# Altium footprint library PCBlib.PcbLib: 54 footprints (part 3 of 4)
Each footprint in its own frame and in the unit in brackets; x right, y up, seen from the top. Pads: shape width x height; smd on the part's side, far side on the other; paste and mask are expansions set on the pad; w line width, h text height; cw(c..) or ccw(c..) is an arc to the next point about the centre after c.
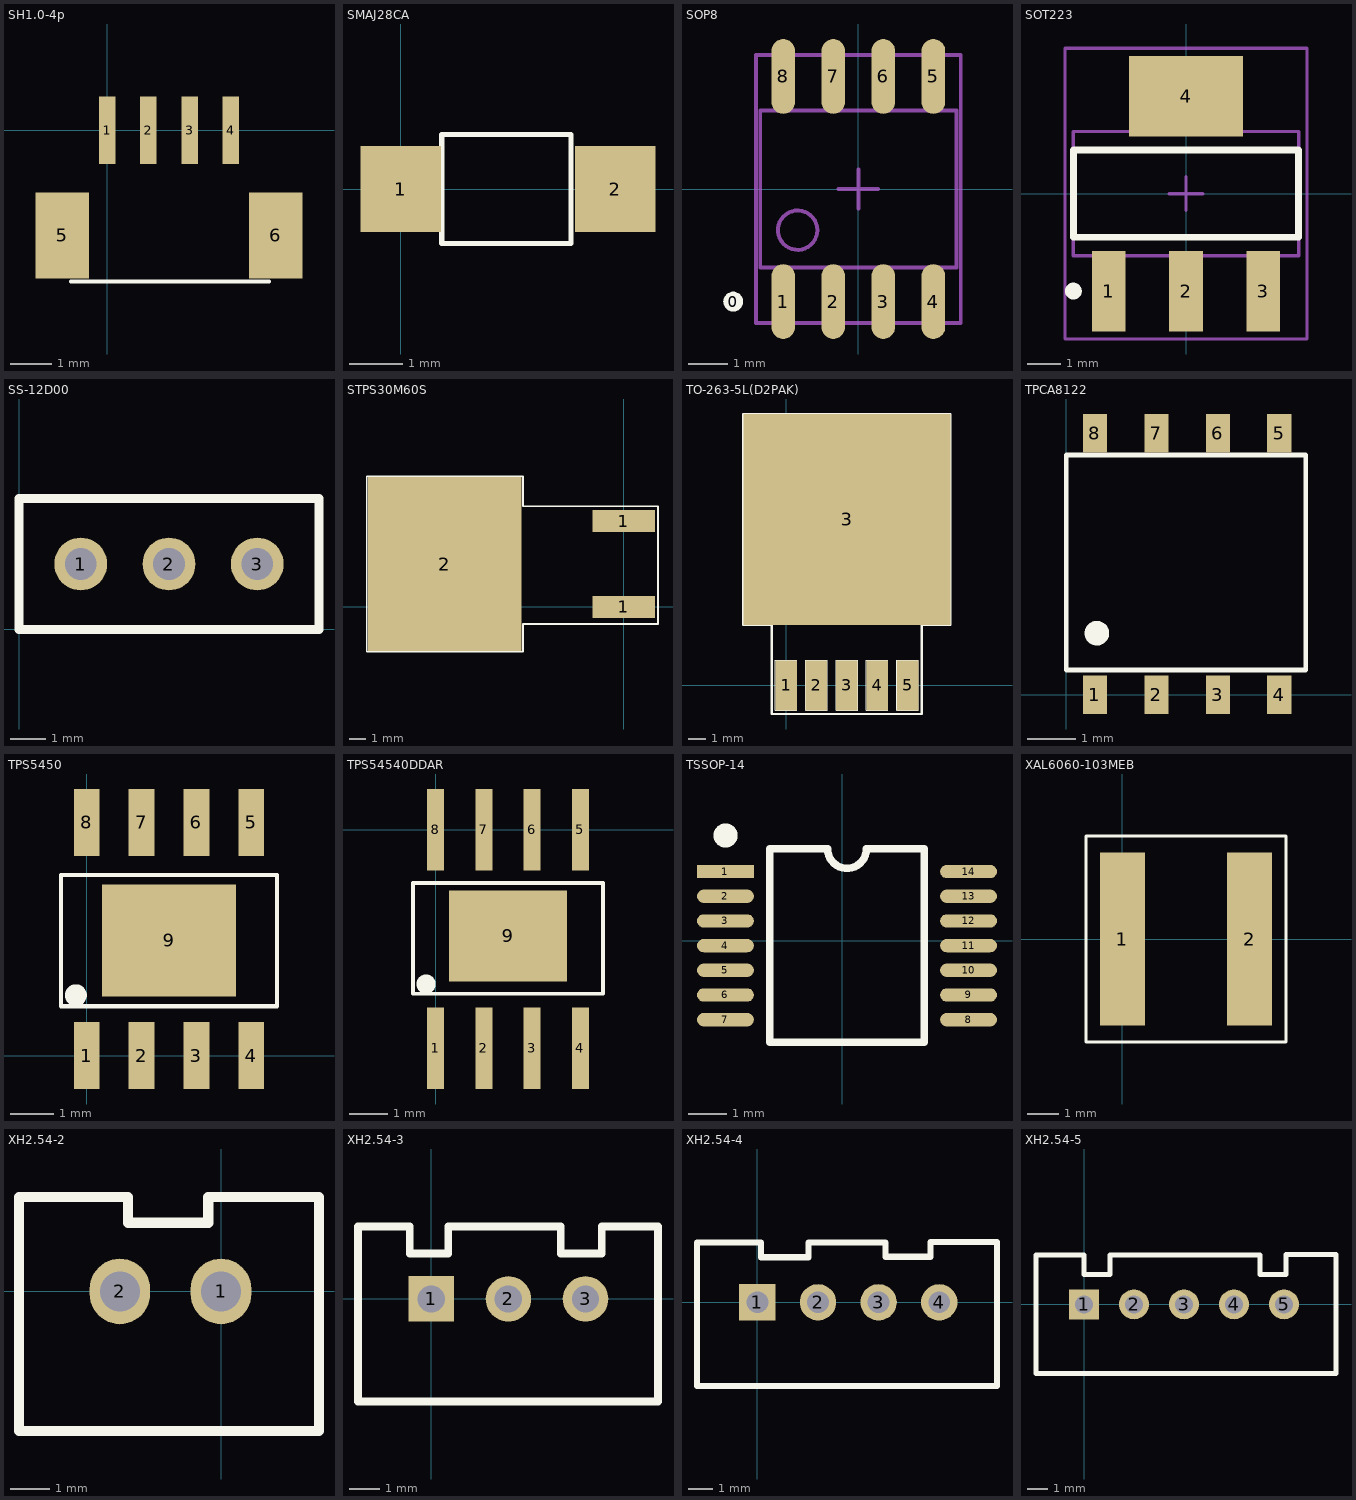
[diagram p2: the footprints below, top view; thin cyan lines are the x and y axes]

## SH1.0-4p [mm]
pads (6):
  rect 0.4x1.65 smd: 1(0,0) 2(1,0) 3(2,0) 4(3,0)
  rect 1.3x2.1 smd: 5(-1.1,-2.56) 6(4.1,-2.56)
Top Overlay:
  lines w0.1: -0.889,-3.683 3.937,-3.683

## SMAJ28CA [mm]
pads (2):
  rect 1.5x1.6 smd: 1(0,0) 2(4,0)
Top Overlay:
  lines w0.1: 0.762,-1.016 3.175,-1.016 3.175,1.016 0.762,1.016 0.762,-1.016

## SOP8 [mm]
height 1.75
pads (9):
  round 0.508 on Top Overlay: 0(-3.175,-2.858)
  oval 0.6x1.9 smd: 1(-1.905,-2.858) 2(-0.635,-2.858) 3(0.635,-2.858) 4(1.905,-2.858) 5(1.905,2.858) 6(0.635,2.858) 7(-0.635,2.858) 8(-1.905,2.858)
Mechanical 13:
  circle w0.1: c-1.54,-1.045 r0.5
  lines w0.1: -2.49,-1.995 -2.49,1.995 2.49,1.995 2.49,-1.995 -2.49,-1.995
Mechanical 15:
  lines w0.1: -0.5,0 0.5,0 ; 0,-0.5 0,0.5 ; -2.6,-3.4 -2.6,3.4 2.6,3.4 2.6,-3.4 -2.6,-3.4
3D body: height 1.75, standoff 0.1, extent -2.49,-1.995 2.49,1.995

## SOT223 [mm]
height 1.75
pads (4):
  rect 1x2.4 smd: 1(-2.3,-2.9) 2(0,-2.9) 3(2.3,-2.9)
  rect 3.4x2.4 smd: 4(0,2.9)
Top Overlay:
  circle w0.25: c-3.35,-2.9 r0.125
  lines w0.2: -3.35,-1.3 -3.35,1.3 3.35,1.3 3.35,-1.3 -3.35,-1.3
Mechanical 13:
  lines w0.1: -3.35,-1.85 -3.35,1.85 3.35,1.85 3.35,-1.85 -3.35,-1.85
Mechanical 15:
  lines w0.1: -0.5,0 0.5,0 ; 0,-0.5 0,0.5 ; -3.6,-4.325 -3.6,4.325 3.6,4.325 3.6,-4.325 -3.6,-4.325
3D body: height 1.8, standoff 0.02, extent -3.35,-1.85 3.35,1.85

## SS-12D00 [mm]
pads (3):
  round 1.5 hole 0.9: 1(1.75,1.85) 2(4.25,1.85) 3(6.75,1.85)
Top Overlay:
  lines w0.254: 0,0 8.5,0 8.5,3.7 0,3.7 0,0

## STPS30M60S [mm]
pads (3):
  rect 3.7x1.3 smd: 1(0,0) 1(0,5.08)
  rect 9.1x10.3 smd: 2(-10.6,2.54)
Top Overlay:
  lines w0.1: -15.24,-2.667 -15.24,7.747 -5.969,7.747 -5.969,5.969 2.032,5.969 2.032,-1.016 -5.969,-1.016 -5.969,-2.667 -15.24,-2.667

## TO-263-5L(D2PAK) [mm]
pads (6):
  rect 1.203x2.803 smd: 1(0,0) 2(1.7,0) 3(3.4,0) 4(5.1,0) 5(6.8,0)
  rect 11.6x11.8 smd: 3(3.412,9.297)
Top Overlay:
  lines w0.025: -0.6,-1.398 -0.6,1.406 ; -0.6,-1.398 0.604,-1.398 ; -0.6,-1.398 -0.6,1.406 ; -0.6,-1.398 0.604,-1.398 ; -0.6,1.406 0.604,1.406 ; -0.6,1.406 0.604,1.406 ; 0.604,-1.398 0.604,1.406 ; 0.604,-1.398 0.604,1.406 ; 1.1,-1.398 1.1,1.406 ; 1.1,-1.398 2.304,-1.398 ; 1.1,-1.398 1.1,1.406 ; 1.1,-1.398 2.304,-1.398 ; 1.1,1.406 2.304,1.406 ; 1.1,1.406 2.304,1.406 ; 2.304,-1.398 2.304,1.406 ; 2.304,-1.398 2.304,1.406 ; 2.8,-1.398 2.8,1.406 ; 2.8,-1.398 4.004,-1.398 ; 2.8,-1.398 2.8,1.406 ; 2.8,-1.398 4.004,-1.398 ; 2.8,1.406 4.004,1.406 ; 2.8,1.406 4.004,1.406 ; 4.004,-1.398 4.004,1.406 ; 4.004,-1.398 4.004,1.406 ; 4.5,-1.398 4.5,1.406 ; 4.5,-1.398 5.704,-1.398 ; 4.5,-1.398 4.5,1.406 ; 4.5,-1.398 5.704,-1.398 ; 4.5,1.406 5.704,1.406 ; 4.5,1.406 5.704,1.406 ; 5.704,-1.398 5.704,1.406 ; 5.704,-1.398 5.704,1.406 ; 6.2,-1.398 6.2,1.406 ; 6.2,-1.398 7.404,-1.398 ; 6.2,-1.398 6.2,1.406 ; 6.2,-1.398 7.404,-1.398 ; 6.2,1.406 7.404,1.406 ; 6.2,1.406 7.404,1.406 ; 7.404,-1.398 7.404,1.406 ; 7.404,-1.398 7.404,1.406
  lines w0.127: -0.798,15.204 -2.398,15.204 ; -2.398,15.204 -2.398,3.404 -0.798,3.404 -0.798,-1.596 7.602,-1.596 7.602,3.404 9.202,3.404 9.202,15.204 -2.398,15.204
3D body "User Library-D2PAK TO-263-5.STEP": height 4.87, standoff 0, extent -1.651,-0.842 8.509,13.388

## TPCA8122 [mm]
pads (8):
  rect 0.5x0.8 smd: 1(0.595,0) 2(1.865,0) 3(3.135,0) 4(4.405,0) 5(4.405,5.4) 6(3.135,5.4) 7(1.865,5.4) 8(0.595,5.4)
Top Overlay:
  circle w0.254: c0.635,1.27 r0.127
  lines w0.1: 0,0.508 4.953,0.508 4.953,4.953 0,4.953 0,0.508

## TPS5450 [mm]
pads (9):
  rect 0.6x1.55 smd: 1(0,0) 2(1.27,0) 3(2.54,0) 4(3.81,0) 5(3.81,5.4) 6(2.54,5.4) 7(1.27,5.4) 8(0,5.4)
  rect 3.1x2.6 smd: 9(1.905,2.667)
Top Overlay:
  circle w0.254: c-0.254,1.397 r0.127
  lines w0.1: -0.595,1.143 -0.595,4.181 1.905,4.181 4.405,4.181 4.405,1.143 1.905,1.143 -0.595,1.143

## TPS54540DDAR [mm]
pads (9):
  rect 0.45x2.15 smd: 1(0,-5.75) 2(1.27,-5.75) 3(2.54,-5.75) 4(3.81,-5.75) 5(3.81,0) 6(2.54,0) 7(1.27,0) 8(0,0)
  rect 3.1x2.4 smd: 9(1.905,-2.794)
Top Overlay:
  circle w0.254: c-0.254,-4.064 r0.127
  lines w0.1: -0.595,-4.318 -0.595,-1.397 1.905,-1.397 4.405,-1.397 4.405,-4.318 1.905,-4.318 -0.595,-4.318

## TSSOP-14 [mm]
pads (14):
  rect 1.5x0.35 smd: 1(-3.073,1.823)
  oval 1.5x0.35 smd: 2(-3.073,1.173) 3(-3.073,0.523) 4(-3.073,-0.127) 5(-3.073,-0.777) 6(-3.073,-1.427) 7(-3.073,-2.077) 8(3.327,-2.077) 9(3.327,-1.427) 10(3.327,-0.777) 11(3.327,-0.127) 12(3.327,0.523) 13(3.327,1.173) 14(3.327,1.823)
Top Overlay:
  circle w0.381: c-3.073,2.773 r0.127
  lines w0.2: -1.905,-2.677 2.159,-2.677 2.159,2.423 0.635,2.423 cw(c0.127,2.413) -0.381,2.423 -1.905,2.423 -1.905,-2.677
3D body "SSOP14.STEP": height 1.25, standoff -0.03, extent -3.075,-2.627 3.329,2.373

## XAL6060-103MEB [mm]
pads (2):
  rect 1.43x5.5 smd: 1(0,0) 2(4.04,0)
Top Overlay:
  lines w0.1: -1.16,-3.28 5.2,-3.28 5.2,3.28 -1.16,3.28 -1.16,-3.28

## XH2.54-2 [mil]
pads (2):
  oval 60x65 hole 39.37: 1(0,0) 2(-100.1,0)
Top Overlay:
  lines w10: -200,-138 97,-138 97,93.3 66.2,93.3 -12.6,93.3 -12.6,68 -92.1,68 -92.1,93.3 -200,93.3 -200,-138
3D body "sip2_n.stp": height 275.59, standoff -118.11, extent -197.64,-142.11 97.64,94.11

## XH2.54-3 [mm]
pads (3):
  rect 1.5x1.5 hole 0.9: 1(0,0)
  round 1.5 hole 0.9: 2(2.54,0) 3(5.08,0)
Top Overlay:
  lines w0.254: -2.413,-3.378 -2.413,2.388 -0.711,2.388 -0.711,1.5 0.559,1.5 0.559,2.388 4.267,2.388 4.267,1.5 5.613,1.5 5.613,2.388 7.468,2.388 7.468,-3.378 -2.413,-3.378
3D body "3pin-2.5.step": height 7, standoff -3.4, extent -2.41,-3.408 7.49,2.342

## XH2.54-4 [mm]
pads (4):
  rect 1.5x1.5 hole 0.9: 1(0,0)
  round 1.5 hole 0.9: 2(2.5,0) 3(5,0) 4(7.5,0)
Top Overlay:
  lines w0.254: -2.489,-3.454 9.881,-3.454 9.881,2.489 7.137,2.489 7.137,1.88 5.283,1.88 5.283,2.464 2.108,2.464 2.108,1.854 0.152,1.854 0.152,2.464 -2.489,2.464 -2.489,-3.454
3D body "4pin-2.5.step": height 7, standoff -3.4, extent -2.466,-3.383 9.934,2.367

## XH2.54-5 [mm]
pads (5):
  rect 1.5x1.5 hole 0.9: 1(0,0)
  round 1.5 hole 0.9: 2(2.5,0) 3(5,0) 4(7.5,0) 5(10,0)
Top Overlay:
  lines w0.254: 1.3,2.438 1.3,1.5 0,1.5 0,2.464 -2.4,2.464 -2.4,-3.454 12.6,-3.454 12.6,2.489 10.1,2.489 10.1,1.5 8.8,1.5 8.8,2.464 1.3,2.464
3D body "User Library-jst-b5b-xh-a.STEP": height 7, standoff -3.4, extent -2.511,-3.388 12.519,2.362